# Altium schematic symbol library USB2.0_HUB_RES.SchLib: 8 symbols
Pins are listed as number, name and electrical type; pins without a type are passive.

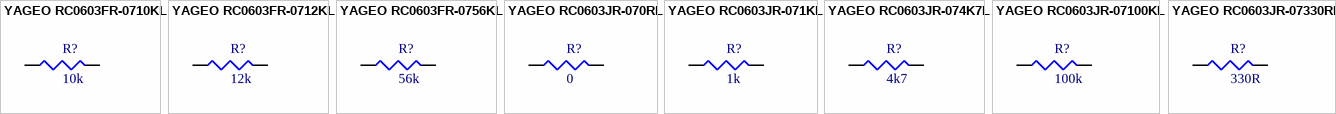
[diagram p0: symbols YAGEO RC0603FR-0710KL to YAGEO RC0603JR-07330RL]

## YAGEO RC0603FR-0710KL
designator R?, comment 10k
100mW 10kΩ 75V Thick Film Resistor ±100ppm/℃ ±1% 0603 Chip Resistor - Surface Mount RoHS; Manufacturer: YAGEO; Manufacturer Part Number: RC0603FR-0710KL; LCSC Part Number: C98220; Package: 0603; ComponentLink1Description: Digikey Link; Mounting Type: SMD; ComponentLink2Description: LCSC Link; ComponentLink2URL: https://www.lcsc.com/product-detail/C98220.html?spm=wm.fly.bg.0.xh___wm.ssy.dhl.mly.12-6-1&lcsc_vid=QlAIX1RQQQJfX1VRTwcNAQJXTlRaUQBVEQBYAwJfFFcxVlNRQ1RXVV1VT1FcVTsOAxUeFF5JWBYZEEoKFBINSQcJGk4%3D
footprint RES_0603
pins: 1, 2

## YAGEO RC0603FR-0712KL
designator R?, comment 12k
RES 12kΩ ±1% 100mW 0603; Manufacturer: YAGEO; Manufacturer Part Number: RC0603FR-0712KL; LCSC Part Number: C114659; Package: 0603; ComponentLink1Description: Digikey Link; Mounting Type: SMD; ComponentLink2Description: LCSC Link; ComponentLink2URL: https://www.lcsc.com/product-detail/C114659.html?spm=wm.fly.bg.0.xh___wm.sy.dhl.mly.12-6-1&lcsc_vid=QlAIX1RQQQJfX1VRTwcNAQJXTlRaUQBVEQBYAwJfFFcxVlNRQ1ReUVNTQlhZUDtW
footprint RES_0603
pins: 1, 2

## YAGEO RC0603FR-0756KL
designator R?, comment 56k
100mW 56kΩ 75V Thick Film Resistor ±100ppm/℃ ±1% 0603 Chip Resistor - Surface Mount RoHS; Manufacturer: YAGEO; Manufacturer Part Number: RC0603FR-0756KL; LCSC Part Number: C114630; Package: 0603; ComponentLink1Description: Digikey Link; Mounting Type: SMD; ComponentLink2Description: LCSC Link; ComponentLink2URL: https://www.lcsc.com/product-detail/C114630.html?spm=wm.fly.bg.0.xh___wm.sxq.dhl.mly.12-6-1&lcsc_vid=ElNWVwADR1BcUgADEwJfBlBQQ1hZBQcDEVVXV1VQE1kxVlNRQlFeU1BSRFhbUztW
footprint RES_0603
pins: 1, 2

## YAGEO RC0603JR-070RL
designator R?, comment 0
100mW 0Ω 75V Thick Film Resistor ±5% 0603 Chip Resistor - Surface Mount RoHS; Manufacturer: YAGEO; Manufacturer Part Number: RC0603JR-070RL; LCSC Part Number: C95177; Package: 0603; ComponentLink1Description: Digikey Link; Mounting Type: SMD; ComponentLink2Description: LCSC Link; ComponentLink2URL: https://www.lcsc.com/product-detail/C95177.html?spm=wm.fly.bg.0.xh___wm.ssy.dhl.mly.12-6-1&lcsc_vid=QlAIX1RQQQJfX1VRTwcNAQJXTlRaUQBVEQBYAwJfFFcxVlNRQ1RXVV1VT1FcVTsOAxUeFF5JWBYZEEoKFBINSQcJGk4%3D
footprint RES_0603
pins: 1, 2

## YAGEO RC0603JR-071KL
designator R?, comment 1k
100mW 1kΩ 75V Thick Film Resistor ±100ppm/℃ ±5% 0603 Chip Resistor - Surface Mount RoHS; Manufacturer: YAGEO; Manufacturer Part Number: RC0603JR-071KL; LCSC Part Number: C14676; Package: 0603; ComponentLink1Description: Digikey Link; Mounting Type: SMD; ComponentLink2Description: LCSC Link; ComponentLink2URL: https://www.lcsc.com/product-detail/C14676.html
footprint RES_0603
pins: 1, 2

## YAGEO RC0603JR-074K7L
designator R?, comment 4k7
100mW 4.7kΩ 75V Thick Film Resistor ±100ppm/℃ ±5% 0603 Chip Resistor - Surface Mount RoHS; Manufacturer: YAGEO; Manufacturer Part Number: RC0603JR-074K7L; LCSC Part Number: C105428; Package: 0603; ComponentLink1Description: Digikey Link; Mounting Type: SMD; ComponentLink2Description: LCSC Link; ComponentLink2URL: https://www.lcsc.com/product-detail/C105428.html?spm=wm.fly.bg.0.xh___wm.sy.dhl.mly.12-6-1&lcsc_vid=ElNWVwADR1BcUgADEwJfBlBQQ1hZBQcDEVVXV1VQE1kxVlNRQlFYX1VWRVJfUztW
footprint RES_0603
pins: 1, 2

## YAGEO RC0603JR-07100KL
designator R?, comment 100k
RES 100kΩ ±5% 100mW 0603; Manufacturer: YAGEO; Manufacturer Part Number: RC0603JR-07100KL; LCSC Part Number: C100048; Package: 0603; ComponentLink1Description: Digikey Link; Mounting Type: SMD; ComponentLink2Description: LCSC Link; ComponentLink2URL: https://www.lcsc.com/product-detail/C100048.html?spm=wm.fly.bg.1.xh___wm.ssy.dhl.mly.12-6-1&lcsc_vid=QlAIX1RQQQJfX1VRTwcNAQJXTlRaUQBVEQBYAwJfFFcxVlNRQ1VcX1FSRFRbUDsOAxUeFF5JWBYZEEoKFBINSQcJGk4dAgUUFAk%3D
footprint RES_0603
pins: 1, 2

## YAGEO RC0603JR-07330RL
designator R?, comment 330R
RES 330Ω ±5% 100mW 0603; Manufacturer: YAGEO; Manufacturer Part Number: RC0603JR-07330RL; LCSC Part Number: C105879; Package: 0603; ComponentLink1Description: Digikey Link; Mounting Type: SMD; ComponentLink2Description: LCSC Link; ComponentLink2URL: https://www.lcsc.com/product-detail/C105879.html?spm=wm.fly.bg.0.xh___wm.ssy.dhl.mly.12-6-1&lcsc_vid=QlAIX1RQQQJfX1VRTwcNAQJXTlRaUQBVEQBYAwJfFFcxVlNRQ1VWVFNXTlZeXzsOAxUeFF5JWBYZEEoKFBINSQcJGk4dAgUUFAk%3D
footprint RES_0603
pins: 1, 2